# EAGLE library part DMP3036SSD (library KVB-transistors)
MOSFET 2P-CH 30V 10.6A 8-SO
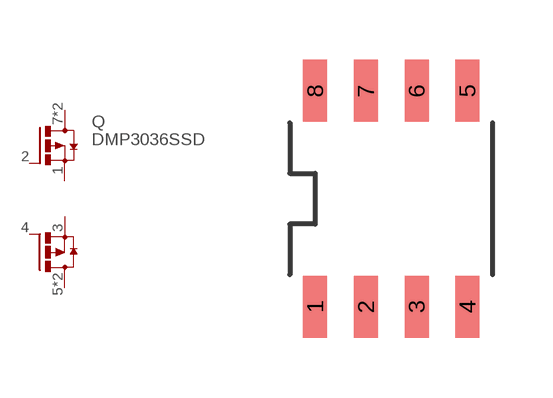
[diagram p1: symbol with the pads of DMP3036SSD; footprint DMP3036SSD]

Designator prefix Q

## DMP3036SSD (MAN-PART_NUM: DMP3036SSD; MANUFACTURER: Diodes Inc.)  [DMP3036SSD]
1  S  pas
2  G  pas
3  S1  pas
4  G1  pas
5  D1  pas
6  D1  pas
7  D  pas
8  D  pas

## Footprint DMP3036SSD (pad centres in mm)
smd 0.6 x 1.55: 1 -1.905,-2.7; 2 -0.635,-2.7; 3 0.635,-2.7; 4 1.905,-2.7; 5 1.905,2.7; 6 0.635,2.7; 7 -0.635,2.7; 8 -1.905,2.7